# Altium schematic symbol library NL_PCB_Project.SCHLIB: 13 symbols
Pins are listed as number, name and electrical type; pins without a type are passive.

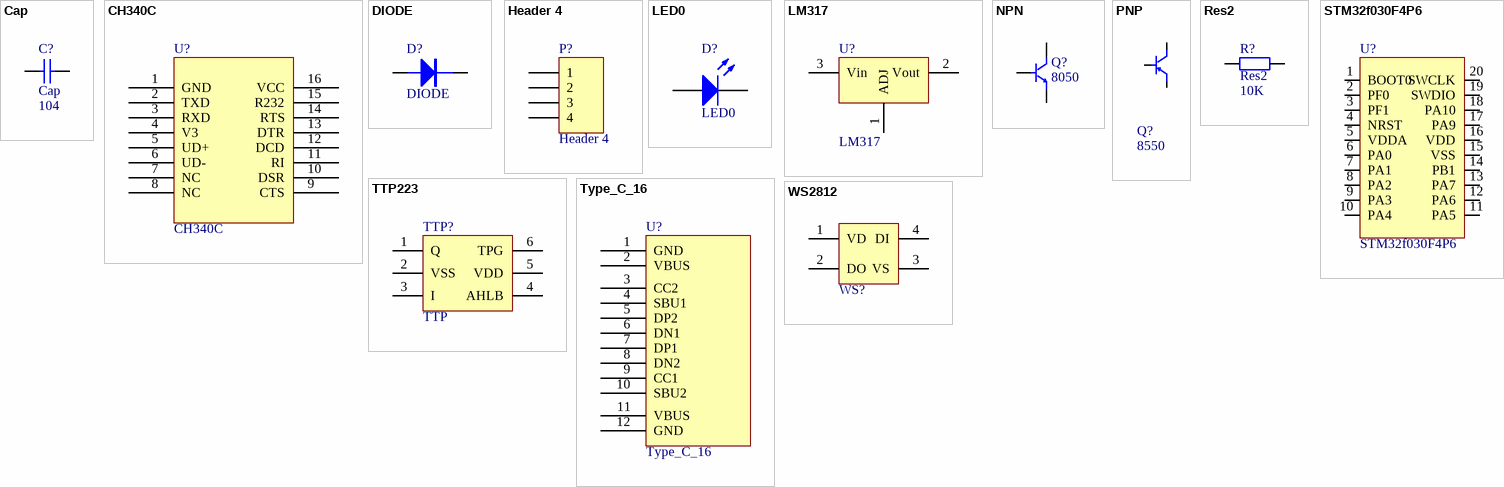
[diagram p0: symbols Cap to WS2812]

## Cap
designator C?  value 104
Capacitor; Published: 8-Jun-2000; LatestRevisionDate: 17-Jul-2002; LatestRevisionNote: Re-released for DXP Platform.; PackageReference: RAD-0.3; Publisher: Altium Limited; PackageDescription: Radial Cap, Thru-Hole; 2 Leads; 0.3 in Pin Spacing
simulation model CAP (Capacitor)
signal-integrity model Cap
footprint 0805
pins: 1, 2

## CH340C
designator U?
footprint SOP16 (Small Outline; 16 Leads; Body Width 5.6 mm; Pitch 1.27)
pins: 1 GND, 2 TXD, 3 RXD, 4 V3, 5 UD+, 6 UD-, 7 NC, 8 NC, 9 CTS, 10 DSR, 11 RI, 12 DCD, 13 DTR, 14 RTS, 15 R232, 16 VCC

## DIODE
designator D?
footprint DIODE0.4
footprint DIODE0.5
footprint DIODE0.2
footprint DIODE/SO.1
footprint 0805L
pins: 1, 2

## Header 4
designator P?
Header, 4-Pin; LatestRevisionDate: 17-Jul-2002; LatestRevisionNote: Re-released for DXP Platform.; Publisher: Altium Limited
footprint HDR1X4 (Connector; Header; 4 Position)
signal-integrity model Connector
pins: 1, 2, 3, 4

## LED0
designator D?
Typical INFRARED GaAs LED; Published: 8-Jun-2000; LatestRevisionDate: 08-Jul-2005; LatestRevisionNote: Mech Layer 1 removed.; PackageReference: LED-0; Publisher: Altium Limited; PackageDescription: LED; 2 Leads
simulation model LED0 (Diode)
footprint 0805
pins: 1 A, 2 K

## LM317
designator U?
3-Terminal Adjustable Positive Voltage Regulator
simulation model LM317 (SUBCKT)
footprint SOT-223
pins: 1 ADJ, 2 Vout, 3 Vin

## NPN
designator Q?, comment 8050
footprint SOT23
pins: b, c, e

## PNP
designator Q?, comment 8550
footprint SOT23
pins: b, c, e

## Res2
designator R?  value 10K
Resistor; Published: 8-Jun-2000; LatestRevisionDate: 17-Jul-2002; LatestRevisionNote: Re-released for DXP Platform.; PackageReference: AXIAL-0.4; Publisher: Altium Limited; PackageDescription: Axial Device, Thru-Hole; 2 Leads; 0.4 in Pin Spacing
simulation model RESISTOR (Resistor)
signal-integrity model Res
footprint 0805
pins: 1, 2

## STM32f030F4P6
designator U?
footprint SSOP20
pins: 1 BOOT0, 2 PF0, 3 PF1, 4 NRST, 5 VDDA, 6 PA0, 7 PA1, 8 PA2, 9 PA3, 10 PA4, 11 PA5, 12 PA6, 13 PA7, 14 PB1, 15 VSS, 16 VDD, 17 PA9, 18 PA10, 19 SWDIO, 20 SWCLK

## TTP223
designator TTP?, comment TTP
footprint SOT23-6L
pins: 1 Q, 2 VSS, 3 I, 4 AHLB, 5 VDD, 6 TPG

## Type_C_16
designator U?
footprint Type_C16 (16pin)
pins: 1 GND, 2 VBUS, 3 CC2, 4 SBU1, 5 DP2, 6 DN1, 7 DP1, 8 DN2, 9 CC1, 10 SBU2, 11 VBUS, 12 GND

## WS2812
designator WS?  (value not drawn)
footprint WS2812
pins: 1 VD, 2 DO, 3 VS, 4 DI